# EAGLE library part 6P6C-VERT-WURTH (library eko-parts)
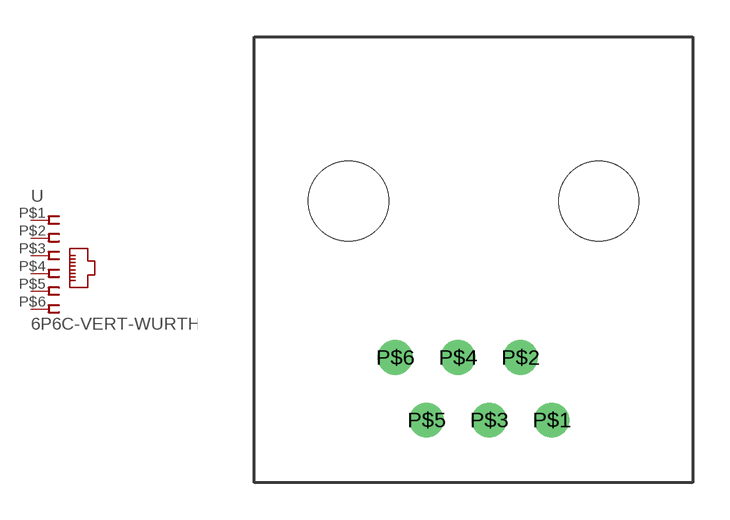
[diagram p4: symbol with the pads of 6P6C-VERT; footprint 6P6C-VERT]

Designator prefix -

## 6P6C-VERT-WURTH  [6P6C-VERT]
P$1  1  pas
P$2  2  pas
P$3  3  pas
P$4  4  pas
P$5  5  pas
P$6  6  pas

## Footprint 6P6C-VERT (pad centres in mm)
drill 0.9 round: P$1 3.175,-8.89; P$2 1.905,-6.35; P$3 0.635,-8.89; P$4 -0.635,-6.35; P$5 -1.905,-8.89; P$6 -3.175,-6.35
hole 3.25 at 5.08,0
hole 3.25 at -5.08,0